# Altium schematic symbol library HC_PCBConnector.SchLib: 2 symbols
Pins are listed as number, name and electrical type; pins without a type are passive.

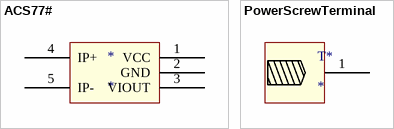
[diagram p0: symbols ACS77# to PowerScrewTerminal]

## ACS77#
designator *
footprint ACS77#
pins: 1 VCC, 2 GND, 3 VIOUT, 4 IP+, 5 IP-

## PowerScrewTerminal
designator T*
footprint WE_REDCUBE_74650195R (Uses the https://au.rs-online.com/web/p/power-element-bushes/1424113/)
pins: 1